# Altium footprint library USB-type-c.PcbLib: 1 footprints
Each footprint in its own frame and in the unit in brackets; x right, y up, seen from the top. Pads: shape width x height; smd on the part's side, far side on the other; paste and mask are expansions set on the pad; w line width, h text height; cw(c..) or ccw(c..) is an arc to the next point about the centre after c.
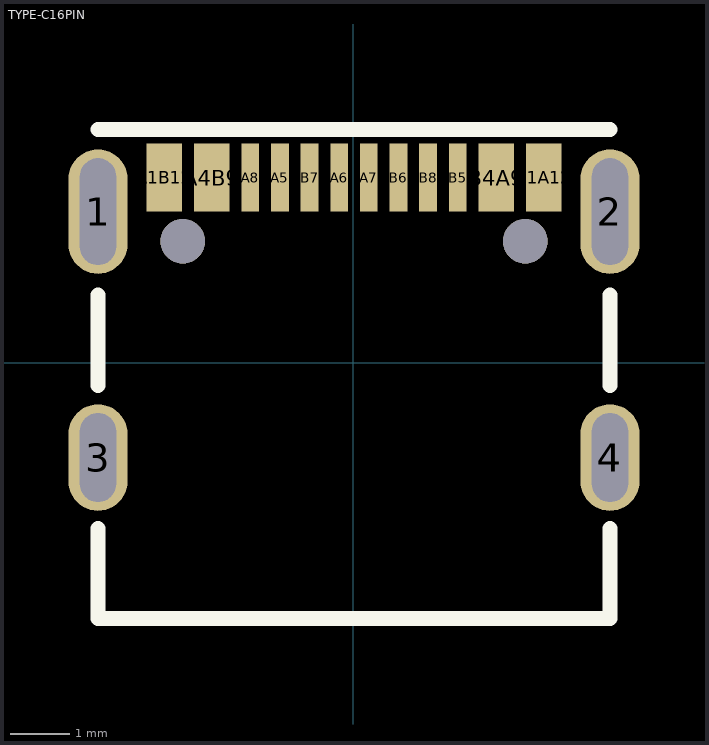
[diagram p0: the footprint, top view; thin cyan lines are the x and y axes]

## TYPE-C16PIN [mm]
pads (18):
  oval 1x2.099 hole 0.61 slot 1.8 at 90 deg: 1(-4.307,2.55) 2(4.333,2.55)
  oval 1x1.799 hole 0.61 slot 1.5 at 90 deg: 3(-4.307,-1.6) 4(4.333,-1.6)
  rect 0.6x1.15 smd: A1B12(-3.187,3.125) A4B9(-2.387,3.125) B1A12(3.213,3.125) B4A9(2.413,3.125)
  rect 0.3x1.15 smd: A5(-1.237,3.125) A6(-0.237,3.125) A7(0.263,3.125) A8(-1.737,3.125) B5(1.763,3.125) B6(0.763,3.125) B7(-0.737,3.125) B8(1.263,3.125)
  round 0.75 hole 0.75 unplated: ""(-2.877,2.05) ""(2.903,2.05)
Top Overlay:
  lines w0.254: -4.305,-4.318 -4.305,-2.794 -4.305,-4.318 ; -4.305,-4.318 4.331,-4.318 ; -4.305,-4.318 4.331,-4.318 ; 4.331,-4.318 4.331,-2.794 4.331,-4.318 ; -4.305,-0.381 -4.305,1.143 -4.305,-0.381 ; -4.305,3.937 4.331,3.937 -4.305,3.937 ; 4.331,-0.381 4.331,1.143 4.331,-0.381
Top Designator:
  text ".Designator" at -6.704,-0.698 h1.52
3D body "User Library-USB-TYPE-C20.step": height 3.26, standoff -1.09, extent -4.47,-4.278 4.47,3.302